# Altium footprint library MLACHL_L.PCBLIB: 254 footprints (part 15 of 16)
Each footprint in its own frame and in the unit in brackets; x right, y up, seen from the top. Pads: shape width x height; smd on the part's side, far side on the other; paste and mask are expansions set on the pad; w line width, h text height; cw(c..) or ccw(c..) is an arc to the next point about the centre after c.
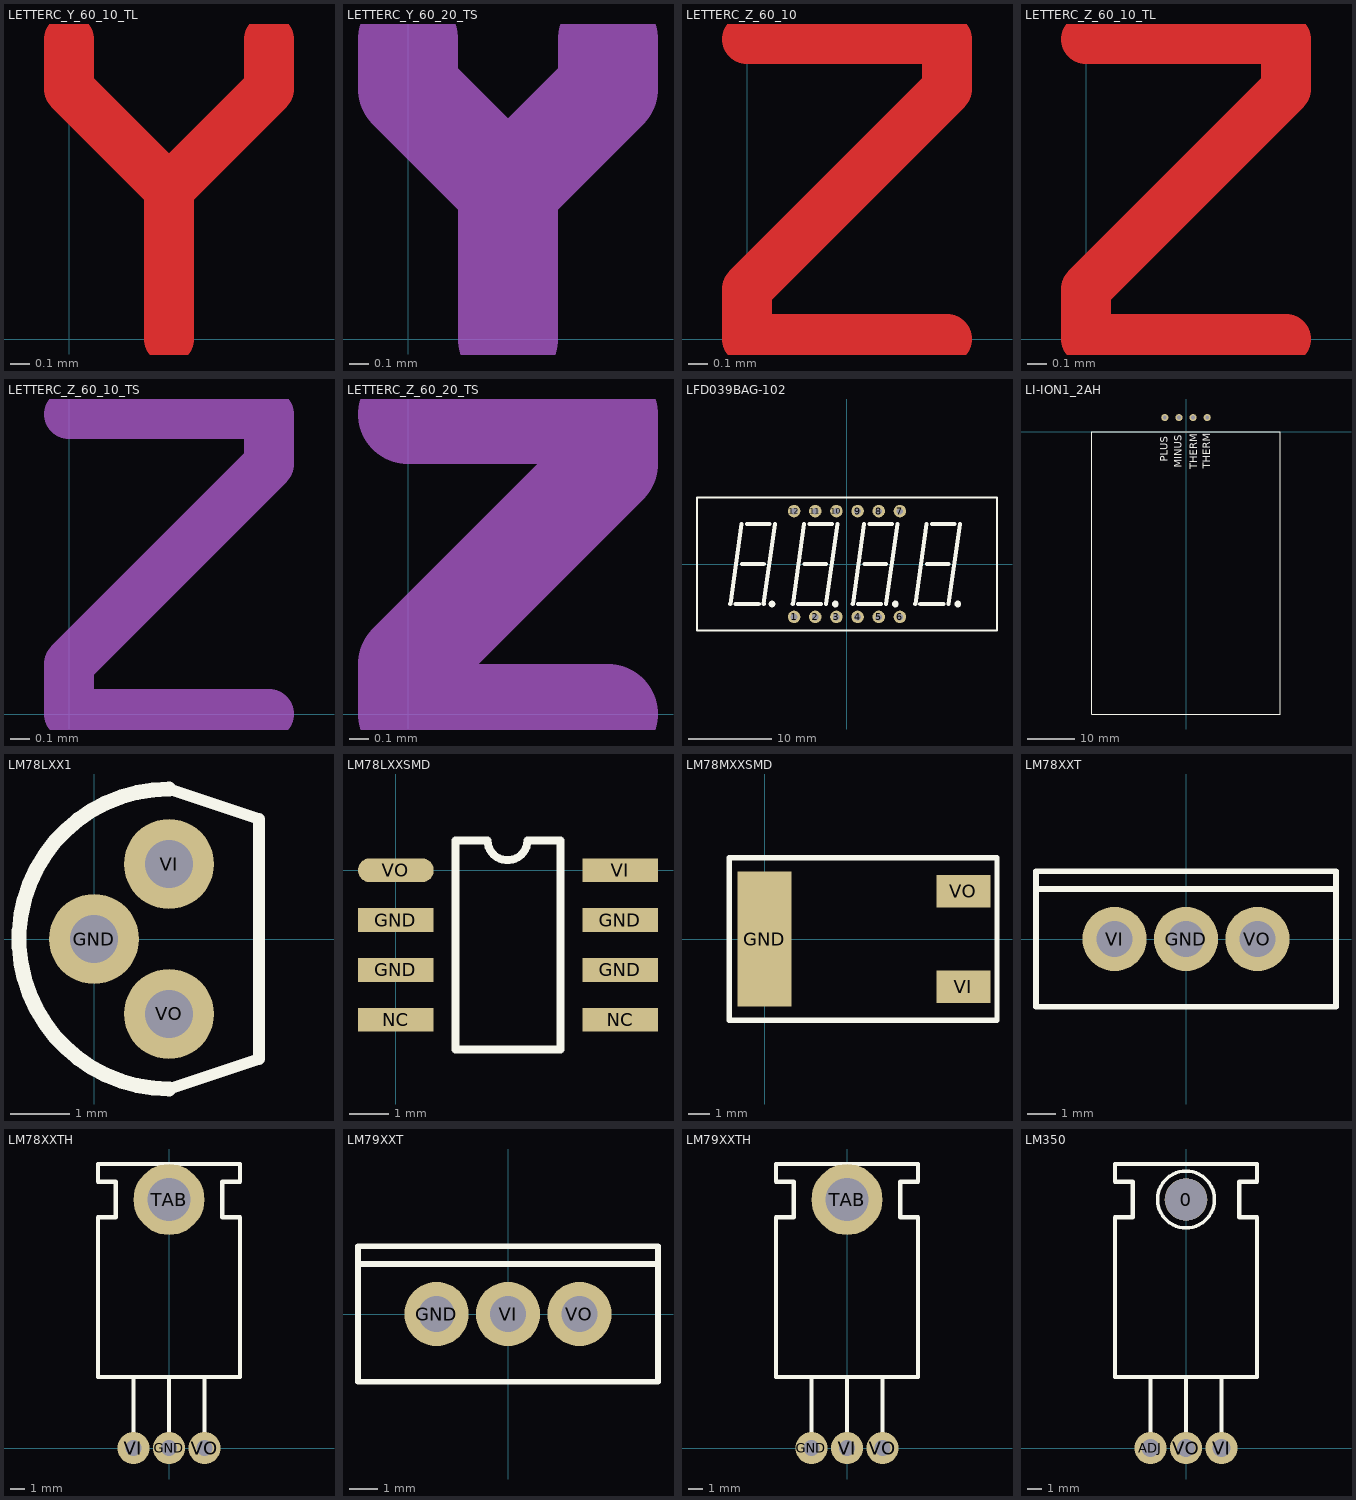
[diagram p14: the footprints below, top view; thin cyan lines are the x and y axes]

## LETTERC_Y_60_10_TL [mm]
TopLayer:
  lines w0.254: 0,1.524 0,1.27 0.508,0.762 ; 0.508,0 0.508,0.762 ; 1.016,1.524 1.016,1.27 0.508,0.762

## LETTERC_Y_60_20_TS [mm]
TopSolder:
  lines w0.508: 0,1.524 0,1.27 0.508,0.762 ; 0.508,0 0.508,0.762 ; 1.016,1.524 1.016,1.27 0.508,0.762

## LETTERC_Z_60_10 [mm]
TopLayer:
  lines w0.254: 0,1.524 1.016,1.524 1.016,1.27 0,0.254 0,0 1.016,0
TopSolder:
  lines w0.508: 0,1.524 1.016,1.524 1.016,1.27 0,0.254 0,0 1.016,0

## LETTERC_Z_60_10_TL [mm]
TopLayer:
  lines w0.254: 0,1.524 1.016,1.524 1.016,1.27 0,0.254 0,0 1.016,0

## LETTERC_Z_60_10_TS [mm]
TopSolder:
  lines w0.254: 0,1.524 1.016,1.524 1.016,1.27 0,0.254 0,0 1.016,0

## LETTERC_Z_60_20_TS [mm]
TopSolder:
  lines w0.508: 0,1.524 1.016,1.524 1.016,1.27 0,0.254 0,0 1.016,0

## LFD039BAG-102 [mm]
pads (12):
  round 1.5 hole 0.8: 1(-6.35,-6.35) 2(-3.81,-6.35) 3(-1.27,-6.35) 4(1.27,-6.35) 5(3.81,-6.35) 6(6.35,-6.35) 7(6.35,6.35) 8(3.81,6.35) 9(1.27,6.35) 10(-1.27,6.35) 11(-3.81,6.35) 12(-6.35,6.35)
TopOverlay:
  circle w0.4: c13.3,-4.8 r0.2
  circle w0.4: c5.8,-4.8 r0.2
  circle w0.4: c-1.4,-4.8 r0.2
  circle w0.4: c-9,-4.8 r0.2
  lines w0.25: -18,-8 18,-8 18,8 -18,8 -18,-8
  lines w0.5: -14,-4.8 -12.65,4.806 ; -13.4,-4.8 -10.6,-4.8 ; -12.6,0 -10,0 ; -12,4.8 -9.3,4.8 ; -10,-4.8 -8.65,4.806 ; -6.5,-4.8 -5.15,4.806 ; -5.9,-4.8 -3.1,-4.8 ; -5.1,0 -2.5,0 ; -4.5,4.8 -1.8,4.8 ; -2.5,-4.8 -1.15,4.806 ; 0.7,-4.8 2.05,4.806 ; 1.3,-4.8 4.1,-4.8 ; 2.1,0 4.7,0 ; 2.7,4.8 5.4,4.8 ; 4.7,-4.8 6.05,4.806 ; 8.2,-4.8 9.55,4.806 ; 8.8,-4.8 11.6,-4.8 ; 9.6,0 12.2,0 ; 10.2,4.8 12.9,4.8 ; 12.2,-4.8 13.55,4.806
3D body: height 7, standoff 0, extent -18,-8 18,8
3D body: height 7.1, standoff 0, extent -9.3,-5.2 -8.5,-4.4
3D body: height 7.1, standoff 0, extent -12.25,4.55 -9.05,5.05
3D body: height 7.1, standoff 0, extent -12.85,-0.25 -9.65,0.25
3D body: height 7.1, standoff 0, extent -13.65,-5.05 -10.45,-4.55
3D body: height 7.1, standoff 0, extent -14.25,-5.05 -12.4,5.05
3D body: height 7.1, standoff 0, extent -10.25,-5.05 -8.4,5.05
3D body: height 7.1, standoff 0, extent -1.8,-5.2 -1,-4.4
3D body: height 7.1, standoff 0, extent -4.75,4.55 -1.55,5.05
3D body: height 7.1, standoff 0, extent -5.35,-0.25 -2.15,0.25
3D body: height 7.1, standoff 0, extent -6.15,-5.05 -2.95,-4.55
3D body: height 7.1, standoff 0, extent -6.75,-5.05 -4.9,5.05
3D body: height 7.1, standoff 0, extent -2.75,-5.05 -0.9,5.05
3D body: height 7.1, standoff 0, extent 5.4,-5.2 6.2,-4.4
3D body: height 7.1, standoff 0, extent 2.45,4.55 5.65,5.05
3D body: height 7.1, standoff 0, extent 1.85,-0.25 5.05,0.25
3D body: height 7.1, standoff 0, extent 1.05,-5.05 4.25,-4.55
3D body: height 7.1, standoff 0, extent 0.45,-5.05 2.3,5.05
3D body: height 7.1, standoff 0, extent 4.45,-5.05 6.3,5.05
3D body: height 7.1, standoff 0, extent 11.95,-5.05 13.8,5.05
3D body: height 7.1, standoff 0, extent 7.95,-5.05 9.8,5.05
3D body: height 7.1, standoff 0, extent 8.55,-5.05 11.75,-4.55
3D body: height 7.1, standoff 0, extent 9.35,-0.25 12.55,0.25
3D body: height 7.1, standoff 0, extent 9.95,4.55 13.15,5.05
3D body: height 7.1, standoff 0, extent 12.9,-5.2 13.7,-4.4

## LI-ION1_2AH [mil]
pads (4):
  round 60 hole 32: 1(-177.17,118.11) 2(-59.06,118.11) 3(59.06,118.11) 4(177.17,118.11)
TopOverlay:
  lines w8: -787.4,-2362.2 -787.4,0 787.4,0 787.4,-2362.2 -787.4,-2362.2
  text "PLUS" at -153.54,-251.97 h60
  text "MINUS" at -35.43,-303.15 h60
  text "THERM" at 94.49,-314.96 h60
  text "THERM" at 204.72,-311.02 h60

## LM78LXX1 [mil]
pads (3):
  round 60 hole 32: GND(0,0) VI(50,50) VO(50,-50)
TopOverlay:
  lines w8: 50,-100 110,-80 110,80 50,100
  lines w10: 50,-100 cw(c50,0) 50,100

## LM78LXXSMD [mil]
pads (8):
  rect 76x24 smd: GND(0,-100) GND(0,-50) GND(225,-100) GND(225,-50) NC(0,-150) NC(225,-150) VI(225,0)
  oval 76x24 smd: VO(0,0)
TopOverlay:
  lines w8: 60,-180 165,-180 165,30 132,30 cw(c112,30) 92,30 60,30 60,-180

## LM78MXXSMD [mil]
pads (3):
  rect 100x250 smd: GND(0,0)
  rect 100x60 smd: VI(368,-88.58) VO(368,88.58)
TopOverlay:
  lines w10: -65,-150 430,-150 430,150 -65,150 -65,-150

## LM78XXT [mil]
pads (3):
  round 90 hole 50: GND(0,0) VI(-100,0) VO(100,0)
TopOverlay:
  lines w8: -210,70 210,70 ; -210,-95 -210,95 210,95 210,-95 -210,-95

## LM78XXTH [mil]
pads (4):
  round 90 hole 45: GND(0,0) VI(-100,0) VO(100,0)
  round 200 hole 120: TAB(0,700)
TopOverlay:
  lines w12: -100,0 -100,200 ; 0,0 0,200 ; 100,0 100,200 ; -200,200 200,200 200,650 150,650 150,750 200,750 200,800 -200,800 -200,750 -150,750 -150,650 -200,650 -200,200

## LM79XXT [mil]
pads (3):
  round 90 hole 50: GND(-100,0) VI(0,0) VO(100,0)
TopOverlay:
  lines w8: -210,70 210,70 ; -210,-95 -210,95 210,95 210,-95 -210,-95

## LM79XXTH [mil]
pads (4):
  round 90 hole 45: GND(-100,0) VI(0,0) VO(100,0)
  round 200 hole 120: TAB(0,700)
TopOverlay:
  lines w12: -100,0 -100,200 ; 0,0 0,200 ; 100,0 100,200 ; -200,200 -200,650 -150,650 -150,750 -200,750 -200,800 200,800 200,750 150,750 150,650 200,650 200,200 -200,200

## LM350 [mil]
pads (4):
  round 120 hole 118: 0(0,700)
  round 90 hole 50: ADJ(-100,0) VI(100,0) VO(0,0)
TopOverlay:
  circle w10: c0,700 r80
  lines w12: -100,0 -100,200 ; 0,0 0,200 ; 100,0 100,200 ; -200,200 200,200 200,650 150,650 150,750 200,750 200,800 -200,800 -200,750 -150,750 -150,650 -200,650 -200,200